# EAGLE library part 61001413321 (library Wurth_Elektronik2)
WR-PHD 2.54mm SMT Socket Header, 14 Pins =>Code : CON_BTB_SHD_2.54_1_SMT_61001413321 <http://katalog.we-online.de/media/images/eican/Con_BTB_SHD_2.54_1_SMT_6100xx11921_pf2.jpg> Details see: http://katalog.we-online.de/en/em/610_0xx_119_21 Created 2014-05-30, Karrer Zheng 2014 (C) Würth Elektronik
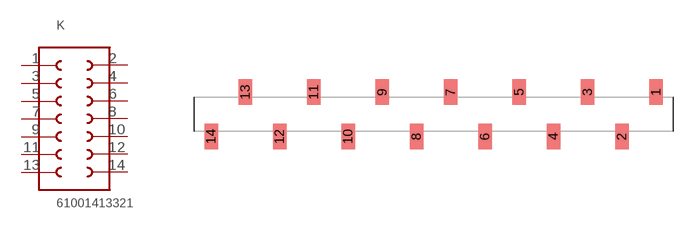
[diagram p208: symbol with the pads of 61001413321; footprint 61001413321]

Designator prefix K

## 61001413321  [61001413321]
1  1  pas
2  14  pas
3  2  pas
4  13  pas
5  3  pas
6  12  pas
7  4  pas
8  11  pas
9  5  pas
10  10  pas
11  6  pas
12  9  pas
13  7  pas
14  8  pas

## Footprint 61001413321 (pad centres in mm)
WR-PHD 2.54mm SMT Socket Header, 14 Pins
smd 1 x 1.91: 1 15.24,1.645; 2 12.7,-1.645; 3 10.16,1.645; 4 7.62,-1.645; 5 5.08,1.645; 6 2.54,-1.645; 7 0,1.645; 8 -2.54,-1.645; 9 -5.08,1.645; 10 -7.62,-1.645; 11 -10.16,1.645; 12 -12.7,-1.645; 13 -15.24,1.645; 14 -17.78,-1.645